# EAGLE library part 23LAN+1SFP (library switch)
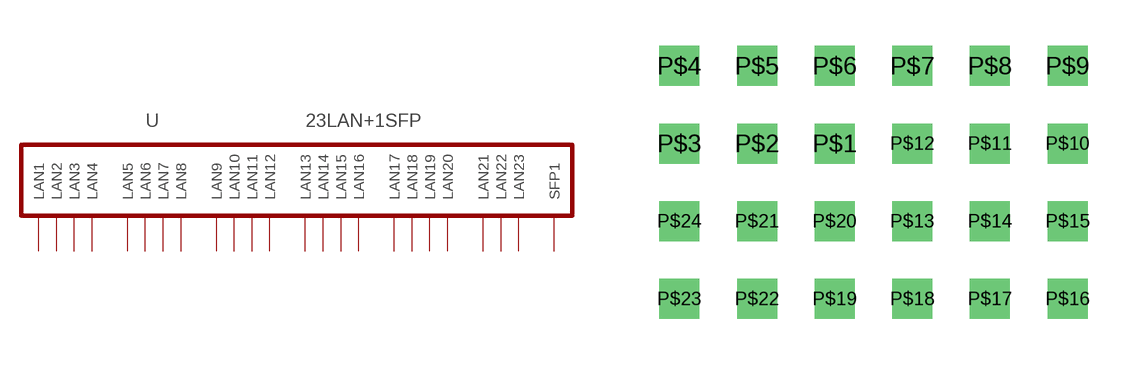
[diagram p8: symbol with the pads of 24PIN; footprint 24PIN]

Designator prefix -

## 23LAN+1SFP  [24PIN]
P$1  LAN1
P$2  LAN2
P$3  LAN3
P$4  LAN4
P$5  LAN5
P$6  LAN6
P$7  LAN7
P$8  LAN8
P$9  LAN9
P$10  LAN10
P$11  LAN11
P$12  LAN12
P$13  LAN13
P$14  LAN14
P$15  LAN15
P$16  LAN16
P$17  LAN17
P$18  LAN18
P$19  LAN19
P$20  LAN20
P$21  LAN21
P$22  LAN22
P$23  LAN23
P$24  SFP1

## Footprint 24PIN (pad centres in mm)
drill 0.8 square: P$1 -1.27,1.27; P$2 -3.81,1.27; P$3 -6.35,1.27; P$4 -6.35,3.81; P$5 -3.81,3.81; P$6 -1.27,3.81; P$7 1.27,3.81; P$8 3.81,3.81; P$9 6.35,3.81; P$10 6.35,1.27; P$11 3.81,1.27; P$12 1.27,1.27; P$13 1.27,-1.27; P$14 3.81,-1.27; P$15 6.35,-1.27; P$16 6.35,-3.81; P$17 3.81,-3.81; P$18 1.27,-3.81; P$19 -1.27,-3.81; P$20 -1.27,-1.27; P$21 -3.81,-1.27; P$22 -3.81,-3.81; P$23 -6.35,-3.81; P$24 -6.35,-1.27